# EAGLE library part PS2801C-4-F3-A (library PS2801C-4-F3-A)
NEC - PS2801C-4-F3-A - OPTOCOUPLER, 4X TR O/P, SSOP-16 Source: Datasheet <https://componentsearchengine.com/Datasheets/2/PS2801C-4-F3-A.pdf>
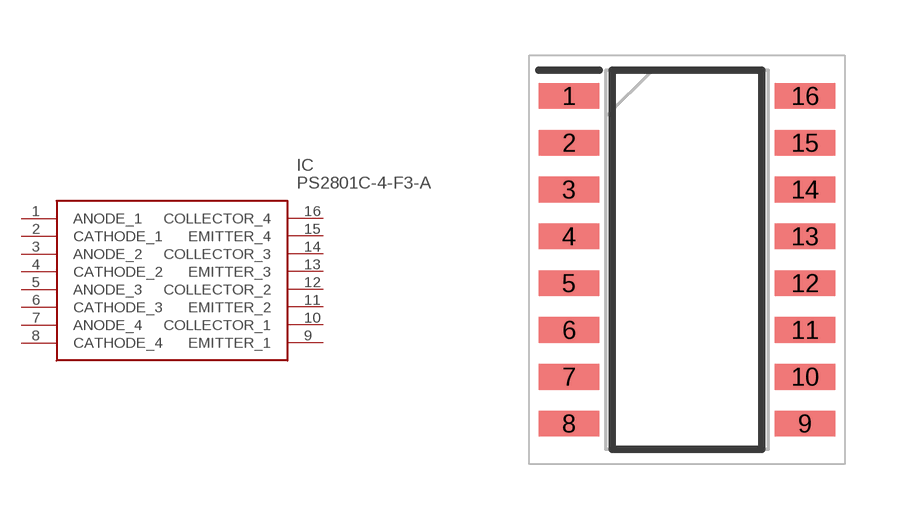
[diagram p0: symbol with the pads of SOIC127P700X230-16N; footprint SOIC127P700X230-16N]

Designator prefix IC

## PS2801C-4-F3-A (Description: NEC - PS2801C-4-F3-A - OPTOCOUPLER, 4X TR O/P, SSOP-16; Height: 2.3mm; Manufacturer_Name: NEC; Manufacturer_Part_Number: PS2801C-4-F3-A)  [SOIC127P700X230-16N]
1  ANODE_1
2  CATHODE_1
3  ANODE_2
4  CATHODE_2
5  ANODE_3
6  CATHODE_3
7  ANODE_4
8  CATHODE_4
9  EMITTER_1
10  COLLECTOR_1
11  EMITTER_2
12  COLLECTOR_2
13  EMITTER_3
14  COLLECTOR_3
15  EMITTER_4
16  COLLECTOR_4

## Footprint SOIC127P700X230-16N (pad centres in mm)
PS2801C-4
smd 1.65 x 0.7: 1 -3.2,4.445; 2 -3.2,3.175; 3 -3.2,1.905; 4 -3.2,0.635; 5 -3.2,-0.635; 6 -3.2,-1.905; 7 -3.2,-3.175; 8 -3.2,-4.445; 9 3.2,-4.445; 10 3.2,-3.175; 11 3.2,-1.905; 12 3.2,-0.635; 13 3.2,0.635; 14 3.2,1.905; 15 3.2,3.175; 16 3.2,4.445